# EAGLE library part JETSON-TX1 (library nvidia)
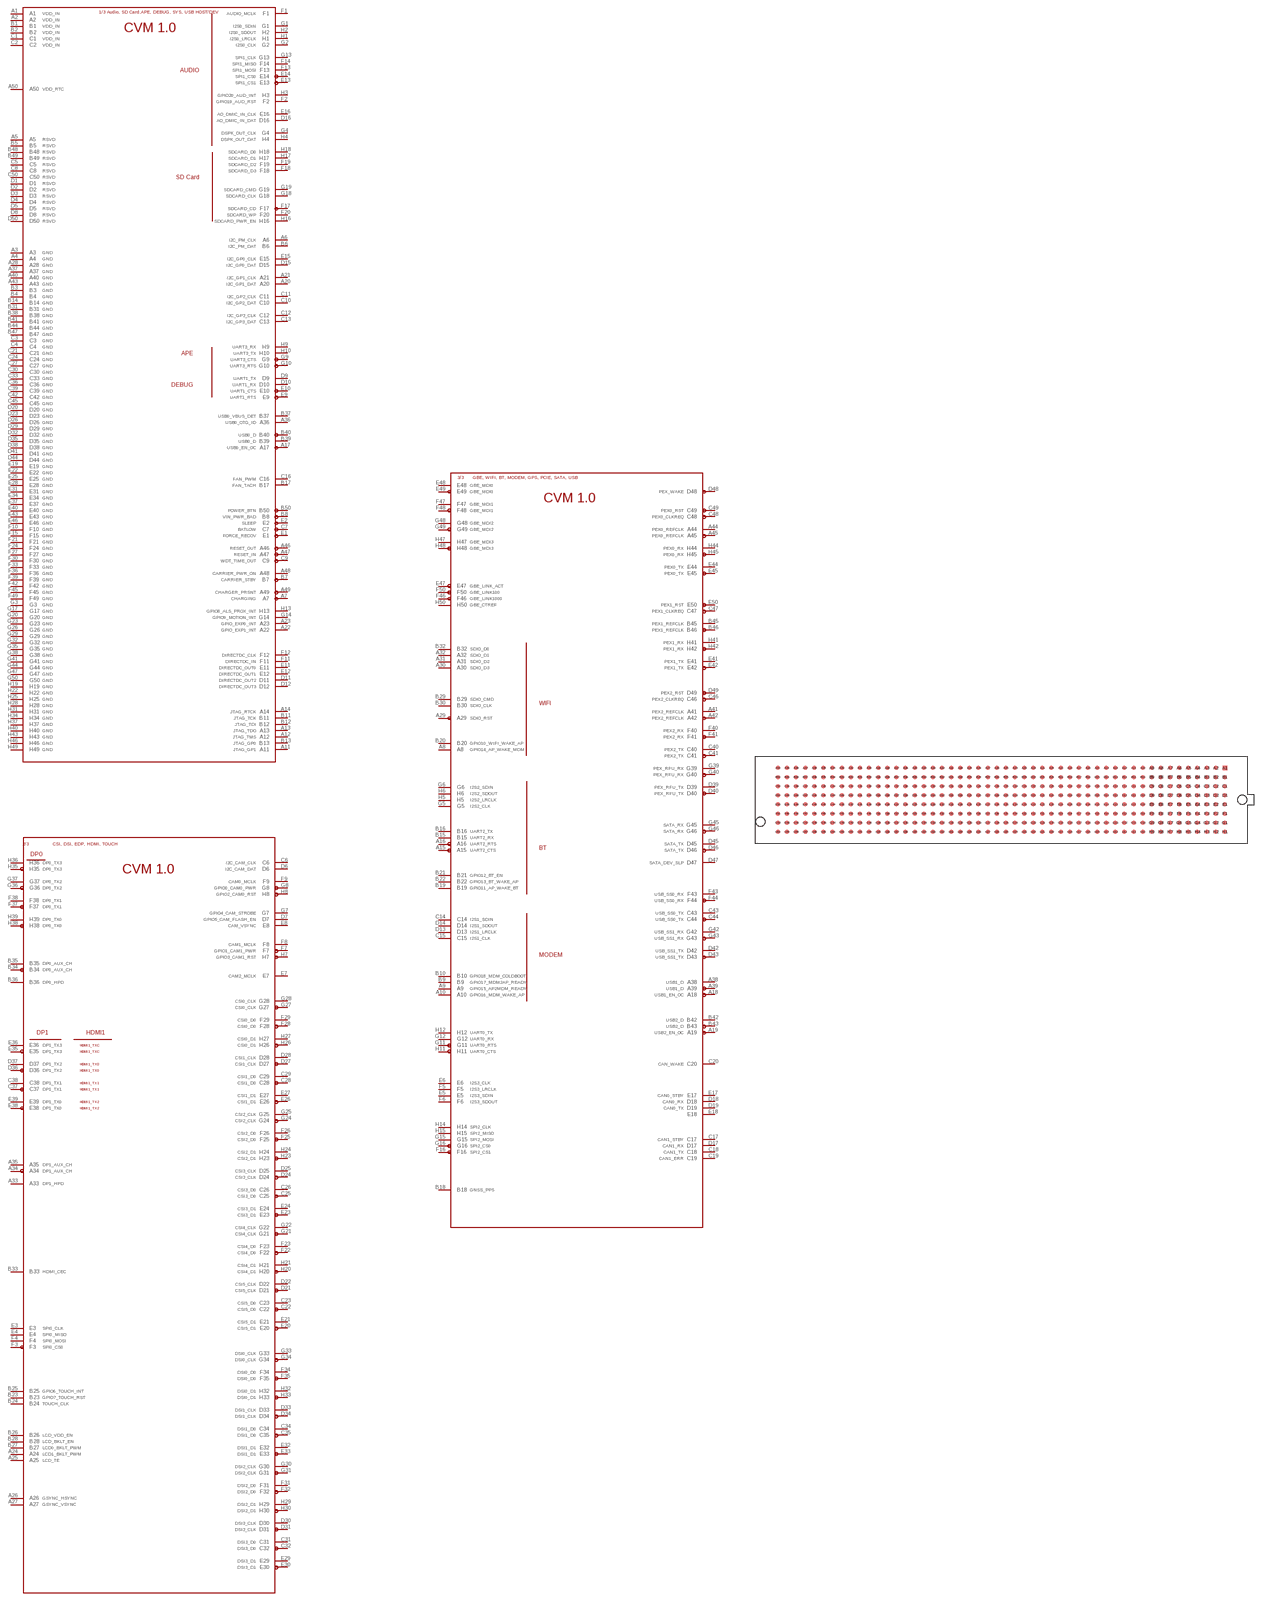
[diagram p0: symbol with the pads of SEAM-50-02.0-L-08-2-A-K-TR; footprint SEAM-50-02.0-L-08-2-A-K-TR]

Designator prefix -; gates G$1=J13C G$2=J13A G$3=J13B

## JETSON-TX1  [SEAM-50-02.0-L-08-2-A-K-TR]
A1  G$1:A1
A2  G$1:A2
A3  G$1:A3
A4  G$1:A4
A5  G$1:A5
A6  G$1:A6
A7  G$1:A7
A8  G$3:A8
A9  G$3:A9
A10  G$3:A10
A11  G$1:A11
A12  G$1:A12
A13  G$1:A13
A14  G$1:A14
A15  G$3:A15
A16  G$3:A16
A17  G$1:A17
A18  G$3:A18
A19  G$3:A19
A20  G$1:A20
A21  G$1:A21
A22  G$1:A22
A23  G$1:A23
A24  G$2:A24
A25  G$2:A25
A26  G$2:A26
A27  G$2:A27
A28  G$1:A28
A29  G$3:A29
A30  G$3:A30
A31  G$3:A31
A32  G$3:A32
A33  G$2:A33
A34  G$2:A34
A35  G$2:A35
A36  G$1:A36
A37  G$1:A37
A38  G$3:A38
A39  G$3:A39
A40  G$1:A40
A41  G$3:A41
A42  G$3:A42
A43  G$1:A43
A44  G$3:A44
A45  G$3:A45
A46  G$1:A46
A47  G$1:A47
A48  G$1:A48
A49  G$1:A49
A50  G$1:A50
B1  G$1:B1
B2  G$1:B2
B3  G$1:B3
B4  G$1:B4
B5  G$1:B5
B6  G$1:B6
B7  G$1:B7
B8  G$1:B8
B9  G$3:B9
B10  G$3:B10
B11  G$1:B11
B12  G$1:B12
B13  G$1:B13
B14  G$1:B14
B15  G$3:B15
B16  G$3:B16
B17  G$1:B17
B18  G$3:B18
B19  G$3:B19
B20  G$3:B20
B21  G$3:B21
B22  G$3:B22
B23  G$2:B23
B24  G$2:B24
B25  G$2:B25
B26  G$2:B26
B27  G$2:B27
B28  G$2:B28
B29  G$3:B29
B30  G$3:B30
B31  G$1:B31
B32  G$3:B32
B33  G$2:B33
B34  G$2:B34
B35  G$2:B35
B36  G$2:B36
B37  G$1:B37
B38  G$1:B38
B39  G$1:B39
B40  G$1:B40
B41  G$1:B41
B42  G$3:B42
B43  G$3:B43
B44  G$1:B44
B45  G$3:B45
B46  G$3:B46
B47  G$1:B47
B48  G$1:B48
B49  G$1:B49
B50  G$1:B50
C1  G$1:C1
C2  G$1:C2
C3  G$1:C3
C4  G$1:C4
C5  G$1:C5
C6  G$2:C6
C7  G$1:C7
C8  G$1:C8
C9  G$1:C9
C10  G$1:C10
C11  G$1:C11
C12  G$1:C12
C13  G$1:C13
C14  G$3:C14
C15  G$3:C15
C16  G$1:C16
C17  G$3:C17
C18  G$3:C18
C19  G$3:C19
C20  G$3:C20
C21  G$1:C21
C22  G$2:C22
C23  G$2:C23
C24  G$1:C24
C25  G$2:C25
C26  G$2:C26
C27  G$1:C27
C28  G$2:C28
C29  G$2:C29
C30  G$1:C30
C31  G$2:C31
C32  G$2:C32
C33  G$1:C33
C34  G$2:C34
C35  G$2:C35
C36  G$1:C36
C37  G$2:C37
C38  G$2:C38
C39  G$1:C39
C40  G$3:C40
C41  G$3:C41
C42  G$1:C42
C43  G$3:C43
C44  G$3:C44
C45  G$1:C45
C46  G$3:C46
C47  G$3:C47
C48  G$3:C48
C49  G$3:C49
C50  G$1:C50
D1  G$1:D1
D2  G$1:D2
D3  G$1:D3
D4  G$1:D4
D5  G$1:D5
D6  G$2:D6
D7  G$2:D7
D8  G$1:D8
D9  G$1:D9
D10  G$1:D10
D11  G$1:D11
D12  G$1:D12
D13  G$3:D13
D14  G$3:D14
D15  G$1:D15
D16  G$1:D16
D17  G$3:D17
D18  G$3:D18
D19  G$3:D19
D20  G$1:D20
D21  G$2:D21
D22  G$2:D22
D23  G$1:D23
D24  G$2:D24
D25  G$2:D25
D26  G$1:D26
D27  G$2:D27
D28  G$2:D28
D29  G$1:D29
D30  G$2:D30
D31  G$2:D31
D32  G$1:D32
D33  G$2:D33
D34  G$2:D34
D35  G$1:D35
D36  G$2:D36
D37  G$2:D37
D38  G$1:D38
D39  G$3:D39
D40  G$3:D40
D41  G$1:D41
D42  G$3:D42
D43  G$3:D43
D44  G$1:D44
D45  G$3:D45
D46  G$3:D46
D47  G$3:D47
D48  G$3:D48
D49  G$3:D49
D50  G$1:D50
E1  G$1:E1
E2  G$1:E2
E3  G$2:E3
E4  G$2:E4
E5  G$3:E5
E6  G$3:E6
E7  G$2:E7
E8  G$2:E8
E9  G$1:E9
E10  G$1:E10
E11  G$1:E11
E12  G$1:E12
E13  G$1:E13
E14  G$1:E14
E15  G$1:E15
E16  G$1:E16
E17  G$3:E17
E18  G$3:E18
E19  G$1:E19
E20  G$2:E20
E21  G$2:E21
E22  G$1:E22
E23  G$2:E23
E24  G$2:E24
E25  G$1:E25
E26  G$2:E26
E27  G$2:E27
E28  G$1:E28
E29  G$2:E29
E30  G$2:E30
E31  G$1:E31
E32  G$2:E32
E33  G$2:E33
E34  G$1:E34
E35  G$2:E35
E36  G$2:E36
E37  G$1:E37
E38  G$2:E38
E39  G$2:E39
E40  G$1:E40
E41  G$3:E41
E42  G$3:E42
E43  G$1:E43
E44  G$3:E44
E45  G$3:E45
E46  G$1:E46
E47  G$3:E47
E48  G$3:E48
E49  G$3:E49
E50  G$3:E50
F1  G$1:F1
F2  G$1:F2
F3  G$2:F3
F4  G$2:F4
F5  G$3:F5
F6  G$3:F6
F7  G$2:F7
F8  G$2:F8
F9  G$2:F9
F10  G$1:F10
F11  G$1:F11
F12  G$1:F12
F13  G$1:F13
F14  G$1:F14
F15  G$1:F15
F16  G$3:F16
F17  G$1:F17
F18  G$1:F18
F19  G$1:F19
F20  G$1:F20
F21  G$1:F21
F22  G$2:F22
F23  G$2:F23
F24  G$1:F24
F25  G$2:F25
F26  G$2:F26
F27  G$1:F27
F28  G$2:F28
F29  G$2:F29
F30  G$1:F30
F31  G$2:F31
F32  G$2:F32
F33  G$1:F33
F34  G$2:F34
F35  G$2:F35
F36  G$1:F36
F37  G$2:F37
F38  G$2:F38
F39  G$1:F39
F40  G$3:F40
F41  G$3:F41
F42  G$1:F42
F43  G$3:F43
F44  G$3:F44
F45  G$1:F45
F46  G$3:F46
F47  G$3:F47
F48  G$3:F48
F49  G$1:F49
F50  G$3:F50
G1  G$1:G1
G2  G$1:G2
G3  G$1:G3
G4  G$1:G4
G5  G$3:G5
G6  G$3:G6
G7  G$2:G7
G8  G$2:G8
G9  G$1:G9
G10  G$1:G10
G11  G$3:G11
G12  G$3:G12
G13  G$1:G13
G14  G$1:G14
G15  G$3:G15
G16  G$3:G16
G17  G$1:G17
G18  G$1:G18
G19  G$1:G19
G20  G$1:G20
G21  G$2:G21
G22  G$2:G22
G23  G$1:G23
G24  G$2:G24
G25  G$2:G25
G26  G$1:G26
G27  G$2:G27
G28  G$2:G28
G29  G$1:G29
G30  G$2:G30
G31  G$2:G31
G32  G$1:G32
G33  G$2:G33
G34  G$2:G34
G35  G$1:G35
G36  G$2:G36
G37  G$2:G37
G38  G$1:G38
G39  G$3:G39
G40  G$3:G40
G41  G$1:G41
G42  G$3:G42
G43  G$3:G43
G44  G$1:G44
G45  G$3:G45
G46  G$3:G46
G47  G$1:G47
G48  G$3:G48
G49  G$3:G49
G50  G$1:G50
H1  G$1:H1
H2  G$1:H2
H3  G$1:H3
H4  G$1:H4
H5  G$3:H5
H6  G$3:H6
H7  G$2:H7
H8  G$2:H8
H9  G$1:H9
H10  G$1:H10
H11  G$3:H11
H12  G$3:H12
H13  G$1:H13
H14  G$3:H14
H15  G$3:H15
H16  G$1:H16
H17  G$1:H17
H18  G$1:H18
H19  G$1:H19
H20  G$2:H20
H21  G$2:H21
H22  G$1:H22
H23  G$2:H23
H24  G$2:H24
H25  G$1:H25
H26  G$2:H26
H27  G$2:H27
H28  G$1:H28
H29  G$2:H29
H30  G$2:H30
H31  G$1:H31
H32  G$2:H32
H33  G$2:H33
H34  G$1:H34
H35  G$2:H35
H36  G$2:H36
H37  G$1:H37
H38  G$2:H38
H39  G$2:H39
H40  G$1:H40
H41  G$3:H41
H42  G$3:H42
H43  G$1:H43
H44  G$3:H44
H45  G$3:H45
H46  G$1:H46
H47  G$3:H47
H48  G$3:H48
H49  G$1:H49
H50  G$3:H50

## Footprint SEAM-50-02.0-L-08-2-A-K-TR (pad centres in mm)
smd 0.64 x 0.64: A1 31.115,4.445; A2 29.845,4.445; A3 28.575,4.445; A4 27.305,4.445; A5 26.035,4.445; A6 24.765,4.445; A7 23.495,4.445; A8 22.225,4.445; A9 20.955,4.445; A10 19.685,4.445; A11 18.415,4.445; A12 17.145,4.445; A13 15.875,4.445; A14 14.605,4.445; A15 13.335,4.445; A16 12.065,4.445; A17 10.795,4.445; A18 9.525,4.445; A19 8.255,4.445; A20 6.985,4.445; A21 5.715,4.445; A22 4.445,4.445; A23 3.175,4.445; A24 1.905,4.445; A25 0.635,4.445; A26 -0.635,4.445; A27 -1.905,4.445; A28 -3.175,4.445; A29 -4.445,4.445; A30 -5.715,4.445; A31 -6.985,4.445; A32 -8.255,4.445; A33 -9.525,4.445; A34 -10.795,4.445; A35 -12.065,4.445; A36 -13.335,4.445; A37 -14.605,4.445; A38 -15.875,4.445; A39 -17.145,4.445; A40 -18.415,4.445; A41 -19.685,4.445; A42 -20.955,4.445; A43 -22.225,4.445; A44 -23.495,4.445; A45 -24.765,4.445; A46 -26.035,4.445; A47 -27.305,4.445; A48 -28.575,4.445; A49 -29.845,4.445; A50 -31.115,4.445; B1 31.115,3.175; B2 29.845,3.175; B3 28.575,3.175; B4 27.305,3.175; B5 26.035,3.175; B6 24.765,3.175; B7 23.495,3.175; B8 22.225,3.175; B9 20.955,3.175; B10 19.685,3.175; B11 18.415,3.175; B12 17.145,3.175; B13 15.875,3.175; B14 14.605,3.175; B15 13.335,3.175; B16 12.065,3.175; B17 10.795,3.175; B18 9.525,3.175; B19 8.255,3.175; B20 6.985,3.175; B21 5.715,3.175; B22 4.445,3.175; B23 3.175,3.175; B24 1.905,3.175; B25 0.635,3.175; B26 -0.635,3.175; B27 -1.905,3.175; B28 -3.175,3.175; B29 -4.445,3.175; B30 -5.715,3.175; B31 -6.985,3.175; B32 -8.255,3.175; B33 -9.525,3.175; B34 -10.795,3.175; B35 -12.065,3.175; B36 -13.335,3.175; B37 -14.605,3.175; B38 -15.875,3.175; B39 -17.145,3.175; B40 -18.415,3.175; B41 -19.685,3.175; B42 -20.955,3.175; B43 -22.225,3.175; B44 -23.495,3.175; B45 -24.765,3.175; B46 -26.035,3.175; B47 -27.305,3.175; B48 -28.575,3.175; B49 -29.845,3.175; B50 -31.115,3.175; C1 31.115,1.905; C2 29.845,1.905; C3 28.575,1.905; C4 27.305,1.905; C5 26.035,1.905; C6 24.765,1.905; C7 23.495,1.905; C8 22.225,1.905; C9 20.955,1.905; C10 19.685,1.905; C11 18.415,1.905; C12 17.145,1.905; C13 15.875,1.905; C14 14.605,1.905; C15 13.335,1.905; C16 12.065,1.905; C17 10.795,1.905; C18 9.525,1.905; C19 8.255,1.905; C20 6.985,1.905; C21 5.715,1.905; C22 4.445,1.905; C23 3.175,1.905; C24 1.905,1.905; C25 0.635,1.905; C26 -0.635,1.905; C27 -1.905,1.905; C28 -3.175,1.905; C29 -4.445,1.905; C30 -5.715,1.905; C31 -6.985,1.905; C32 -8.255,1.905; C33 -9.525,1.905; C34 -10.795,1.905; C35 -12.065,1.905; C36 -13.335,1.905; C37 -14.605,1.905; C38 -15.875,1.905; C39 -17.145,1.905; C40 -18.415,1.905; C41 -19.685,1.905; C42 -20.955,1.905; C43 -22.225,1.905; C44 -23.495,1.905; C45 -24.765,1.905; C46 -26.035,1.905; C47 -27.305,1.905; C48 -28.575,1.905; C49 -29.845,1.905; C50 -31.115,1.905; D1 31.115,0.635; D2 29.845,0.635; D3 28.575,0.635; D4 27.305,0.635; D5 26.035,0.635; D6 24.765,0.635; D7 23.495,0.635; D8 22.225,0.635; D9 20.955,0.635; D10 19.685,0.635; D11 18.415,0.635; D12 17.145,0.635; D13 15.875,0.635; D14 14.605,0.635; D15 13.335,0.635; D16 12.065,0.635; D17 10.795,0.635; D18 9.525,0.635; D19 8.255,0.635; D20 6.985,0.635; D21 5.715,0.635; D22 4.445,0.635; D23 3.175,0.635; D24 1.905,0.635; D25 0.635,0.635; D26 -0.635,0.635; D27 -1.905,0.635; D28 -3.175,0.635; D29 -4.445,0.635; D30 -5.715,0.635; D31 -6.985,0.635; D32 -8.255,0.635; D33 -9.525,0.635; D34 -10.795,0.635; D35 -12.065,0.635; D36 -13.335,0.635; D37 -14.605,0.635; D38 -15.875,0.635; D39 -17.145,0.635; D40 -18.415,0.635; D41 -19.685,0.635; D42 -20.955,0.635; D43 -22.225,0.635; D44 -23.495,0.635; D45 -24.765,0.635; D46 -26.035,0.635; D47 -27.305,0.635; D48 -28.575,0.635; D49 -29.845,0.635; D50 -31.115,0.635; E1 31.115,-0.635; E2 29.845,-0.635; E3 28.575,-0.635; E4 27.305,-0.635; E5 26.035,-0.635; E6 24.765,-0.635; E7 23.495,-0.635; E8 22.225,-0.635; E9 20.955,-0.635; E10 19.685,-0.635; E11 18.415,-0.635; E12 17.145,-0.635; E13 15.875,-0.635; E14 14.605,-0.635; E15 13.335,-0.635; E16 12.065,-0.635; E17 10.795,-0.635; E18 9.525,-0.635; E19 8.255,-0.635; E20 6.985,-0.635; E21 5.715,-0.635; E22 4.445,-0.635; E23 3.175,-0.635; E24 1.905,-0.635; E25 0.635,-0.635; E26 -0.635,-0.635; E27 -1.905,-0.635; E28 -3.175,-0.635; E29 -4.445,-0.635; E30 -5.715,-0.635; E31 -6.985,-0.635; E32 -8.255,-0.635; E33 -9.525,-0.635; E34 -10.795,-0.635; E35 -12.065,-0.635; E36 -13.335,-0.635; E37 -14.605,-0.635; E38 -15.875,-0.635; E39 -17.145,-0.635; E40 -18.415,-0.635; E41 -19.685,-0.635; E42 -20.955,-0.635; E43 -22.225,-0.635; E44 -23.495,-0.635; E45 -24.765,-0.635; E46 -26.035,-0.635; E47 -27.305,-0.635; E48 -28.575,-0.635; E49 -29.845,-0.635; E50 -31.115,-0.635; F1 31.115,-1.905; F2 29.845,-1.905; F3 28.575,-1.905; F4 27.305,-1.905; F5 26.035,-1.905; F6 24.765,-1.905; F7 23.495,-1.905; F8 22.225,-1.905; F9 20.955,-1.905; F10 19.685,-1.905; F11 18.415,-1.905; F12 17.145,-1.905; F13 15.875,-1.905; F14 14.605,-1.905; F15 13.335,-1.905; F16 12.065,-1.905; F17 10.795,-1.905; F18 9.525,-1.905; F19 8.255,-1.905; F20 6.985,-1.905; F21 5.715,-1.905; F22 4.445,-1.905; F23 3.175,-1.905; F24 1.905,-1.905; F25 0.635,-1.905; F26 -0.635,-1.905; F27 -1.905,-1.905; F28 -3.175,-1.905; F29 -4.445,-1.905; F30 -5.715,-1.905; F31 -6.985,-1.905; F32 -8.255,-1.905; F33 -9.525,-1.905; F34 -10.795,-1.905; F35 -12.065,-1.905; F36 -13.335,-1.905; F37 -14.605,-1.905; F38 -15.875,-1.905; F39 -17.145,-1.905; F40 -18.415,-1.905; F41 -19.685,-1.905; F42 -20.955,-1.905; F43 -22.225,-1.905; F44 -23.495,-1.905; F45 -24.765,-1.905; F46 -26.035,-1.905; F47 -27.305,-1.905; F48 -28.575,-1.905; F49 -29.845,-1.905; F50 -31.115,-1.905; G1 31.115,-3.175; G2 29.845,-3.175; G3 28.575,-3.175; G4 27.305,-3.175; G5 26.035,-3.175; G6 24.765,-3.175; G7 23.495,-3.175; G8 22.225,-3.175; G9 20.955,-3.175; G10 19.685,-3.175; G11 18.415,-3.175; G12 17.145,-3.175; G13 15.875,-3.175; G14 14.605,-3.175; G15 13.335,-3.175; G16 12.065,-3.175; G17 10.795,-3.175; G18 9.525,-3.175; G19 8.255,-3.175; G20 6.985,-3.175; G21 5.715,-3.175; G22 4.445,-3.175; G23 3.175,-3.175; G24 1.905,-3.175; G25 0.635,-3.175; G26 -0.635,-3.175; G27 -1.905,-3.175; G28 -3.175,-3.175; G29 -4.445,-3.175; G30 -5.715,-3.175; G31 -6.985,-3.175; G32 -8.255,-3.175; G33 -9.525,-3.175; G34 -10.795,-3.175; G35 -12.065,-3.175; G36 -13.335,-3.175; G37 -14.605,-3.175; G38 -15.875,-3.175; G39 -17.145,-3.175; G40 -18.415,-3.175; G41 -19.685,-3.175; G42 -20.955,-3.175; G43 -22.225,-3.175; G44 -23.495,-3.175; G45 -24.765,-3.175; G46 -26.035,-3.175; G47 -27.305,-3.175; G48 -28.575,-3.175; G49 -29.845,-3.175; G50 -31.115,-3.175; H1 31.115,-4.445; H2 29.845,-4.445; H3 28.575,-4.445; H4 27.305,-4.445; H5 26.035,-4.445; H6 24.765,-4.445; H7 23.495,-4.445; H8 22.225,-4.445; H9 20.955,-4.445; H10 19.685,-4.445; H11 18.415,-4.445; H12 17.145,-4.445; H13 15.875,-4.445; H14 14.605,-4.445; H15 13.335,-4.445; H16 12.065,-4.445; H17 10.795,-4.445; H18 9.525,-4.445; H19 8.255,-4.445; H20 6.985,-4.445; H21 5.715,-4.445; H22 4.445,-4.445; H23 3.175,-4.445; H24 1.905,-4.445; H25 0.635,-4.445; H26 -0.635,-4.445; H27 -1.905,-4.445; H28 -3.175,-4.445; H29 -4.445,-4.445; H30 -5.715,-4.445; H31 -6.985,-4.445; H32 -8.255,-4.445; H33 -9.525,-4.445; H34 -10.795,-4.445; H35 -12.065,-4.445; H36 -13.335,-4.445; H37 -14.605,-4.445; H38 -15.875,-4.445; H39 -17.145,-4.445; H40 -18.415,-4.445; H41 -19.685,-4.445; H42 -20.955,-4.445; H43 -22.225,-4.445; H44 -23.495,-4.445; H45 -24.765,-4.445; H46 -26.035,-4.445; H47 -27.305,-4.445; H48 -28.575,-4.445; H49 -29.845,-4.445; H50 -31.115,-4.445
hole 1.27 at 33.54,0
hole 1.27 at -33.54,-3.048